# Altium schematic symbol library PCEIOT.SCHLIB: 87 symbols (part 2 of 2)
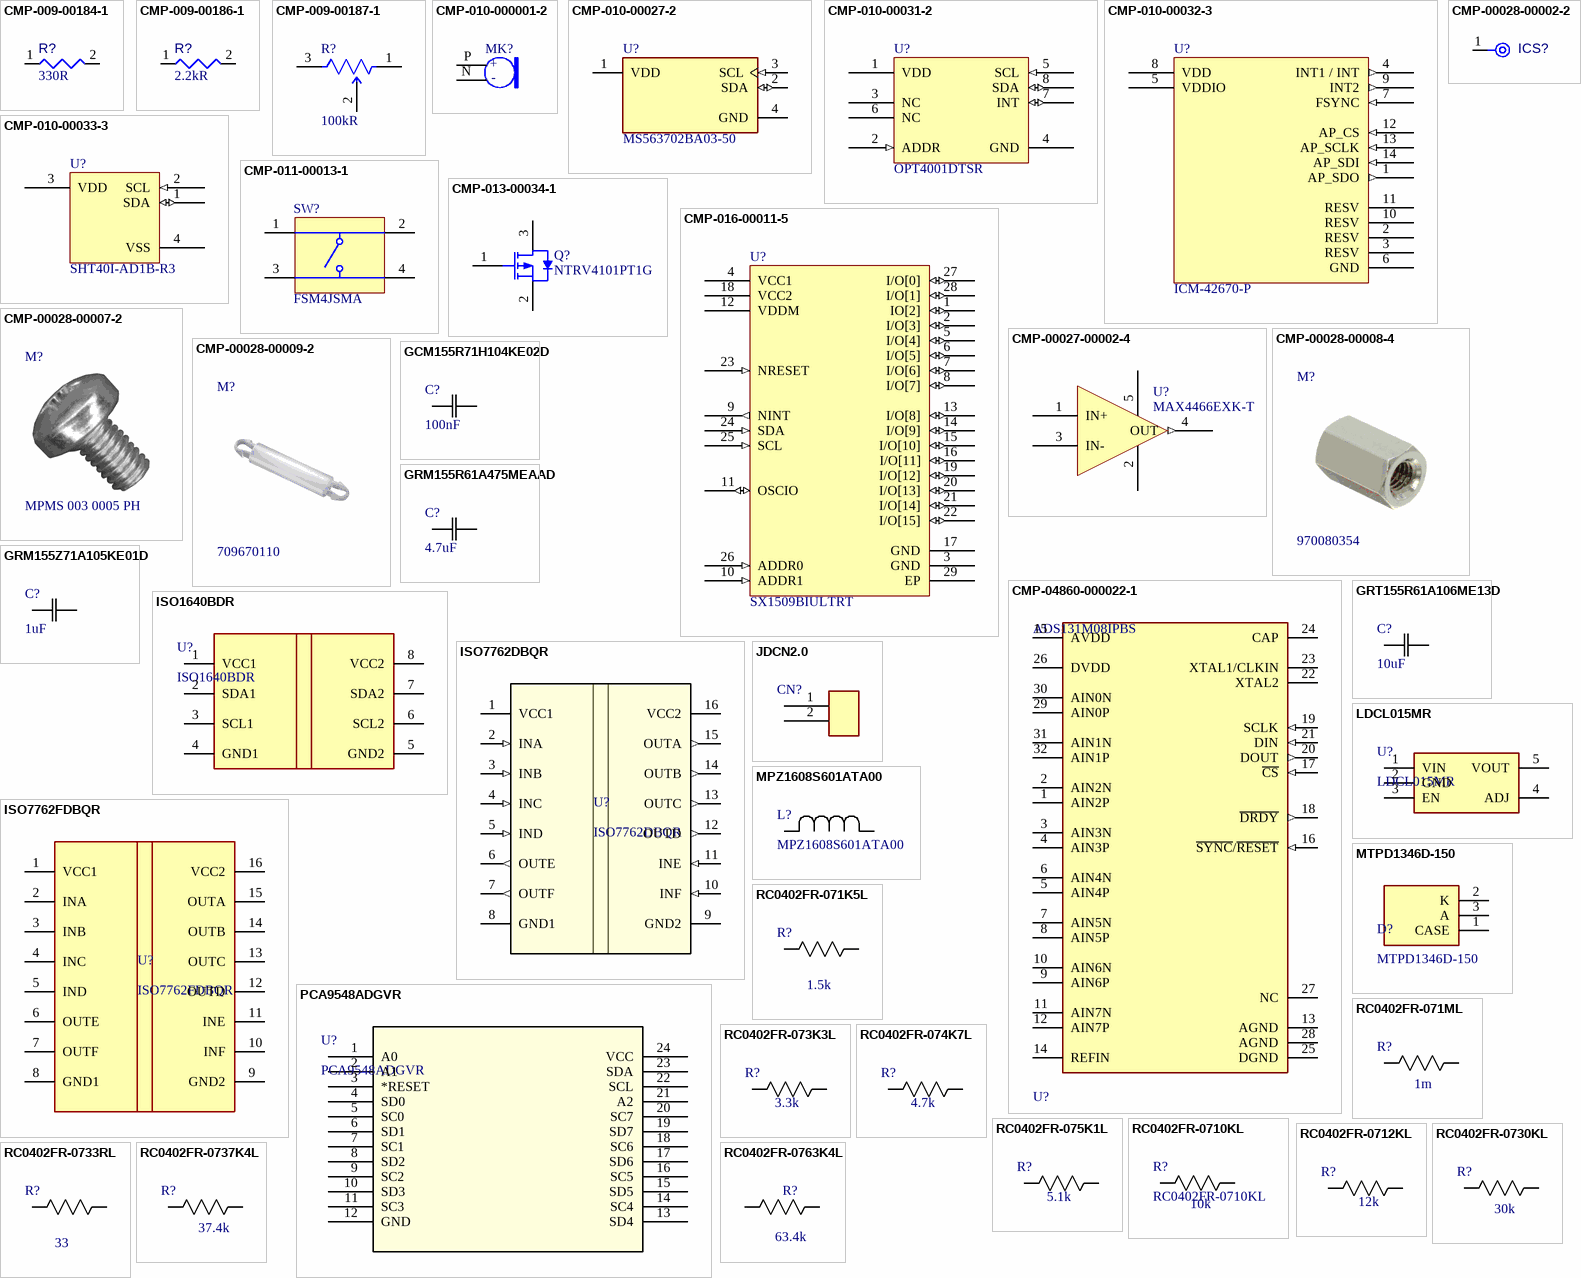
[diagram p3: symbols CMP-009-00184-1 to RC0402FR-0763K4L]

## LDCL015MR
designator U?
Linear Voltage Regulator IC Positive Adjustable 1 Output 150mA SOT-23-5; Manufacturer_Name: STMicroelectronics; Parameter 1: 497-12085-1-ND; Datasheet Link: https://www.st.com/resource/en/datasheet/ldcl015.pdf; Height: 1.45mm; Manufacturer_Part_Number: LDCL015MR; Mouser Part Number: 511-LDCL015MR; Mouser Price/Stock: https://www.mouser.co.uk/ProductDetail/STMicroelectronics/LDCL015MR?qs=GkDVaEP5dcuyqQ8OoCXIYg%3D%3D; Arrow Part Number: LDCL015MR; Arrow Price/Stock: https://www.arrow.com/en/products/ldcl015mr/stmicroelectronics?region=nac; Supplier 1: Digikey; Value: LDCL015MR
footprint SOT95P280X145-5N
footprint SOT95P280X145-5N
pins: 1 VIN, 2 GND (power), 3 EN, 4 ADJ, 5 VOUT

## MPZ1608S601ATA00
designator L?
INDUCTOR; SMT (0603); FERRITE-BEAD; 600; TOL=+/-25%; 1A; -55 DEGC TO +125 DEGC; Manufacturer_Name: TDK; Copyright: Copyright (C) 2026 Ultra Librarian. All rights reserved.; Manufacturer_Part_Number: MPZ1608S601ATA00; Supplier 1: DigiKey; Supplier Part Number 1: 445-MPZ1608S601ATA00CT-ND; Supplier 2: Mouser; Supplier Part Number 2: 810-MPZ1608S601ATA00; Value: MPZ1608S601ATA00; Datasheet Link: https://product.tdk.com/en/system/files/dam/doc/product/emc/emc/beads/catalog/beads_commercial_power_mpz1608_en.pdf
footprint INDC1608X06N (Chip Inductor, 2-Leads, Body 1,6x0,8mm (0603), IPC Medium Density)
pins: 1, 2

## MTPD1346D-150
designator D?
Photodiode 1300nm TO-46-3 Lens Top Metal Can; Manufacturer_Name: Marktech Optoelectronics; SnapEDA_Link: https://www.snapeda.com/parts/MTPD1346D-150/Marktech%20Optoelectronics/view-part/2762424/?ref=snap; Manufacturer_Part_Number: MTPD1346D-150; Value: MTPD1346D-150; Package: TO-46-3 Marktech Optoelectronics; Supplier 1: Digikey; Supplier Part Number 1: 1125-1327-ND; Datasheet Link: https://specs.marktechopto.com/pdf/products/datasheet/MTPD1346D-150.pdf
footprint TO127P540X1680-3N
pins: 1 CASE, 2 K, 3 A

## PCA9548ADGVR
designator U?
8-channel 2.3- to 5.5-V I2C/SMBus switch with reset & voltage translation 24-TVSOP -40 to 85; Manufacturer_Name: Texas Instruments; Copyright: Copyright (C) 2026 Ultra Librarian. All rights reserved.; Manufacturer_Part_Number: PCA9548ADGVR; RefDes: RefDes; Type: Type; Supplier 1: Mouser; Supplier Part Number 1: 595-PCA9548ADGVR
footprint DGV24
pins: 1 A0, 2 A1, 3 *RESET, 4 SD0, 5 SC0, 6 SD1, 7 SC1, 8 SD2, 9 SC2, 10 SD3, 11 SC3, 12 GND, 13 SD4, 14 SC4, 15 SD5, 16 SC5, 17 SD6, 18 SC6, 19 SD7, 20 SC7, 21 A2, 22 SCL, 23 SDA, 24 VCC

## RC0402FR-071K5L
designator R?  value 1.5k  (hidden comment: RC0402FR-071K5L)
1.5 kOhms ±1% 0.063W, 1/16W Chip Resistor 0402 (1005 Metric) Moisture Resistant Thick Film; Manufacturer_Name: Yageo; Copyright: Copyright (C) 2025 Ultra Librarian. All rights reserved.; Manufacturer_Part_Number: RC0402FR-071K5L; Supplier 1: DigiKey; Supplier Part Number 1: 311-1.50KLRCT-ND; Datasheet Link: https://yageogroup.com/content/datasheet/asset/file/PYU-RC_GROUP_51_ROHS_L
footprint RESC1005X40N (Chip Resistor, 2-Leads, Body 1,0x0,50mm (0402), IPC Medium Density)
pins: 1, 2

## RC0402FR-071ML
designator R?  value 1m  (hidden comment: RC0402FR-071ML)
1 MOhms ±1% 0.063W, 1/16W Chip Resistor 0402 (1005 Metric) Moisture Resistant Thick Film; Manufacturer_Name: Yageo; Copyright: Copyright (C) 2026 Ultra Librarian. All rights reserved.; Manufacturer_Part_Number: RC0402FR-071ML; Supplier 1: DigiKey; Supplier Part Number 1: 311-1.00MLRCT-ND; Datasheet Link: https://yageogroup.com/content/datasheet/asset/file/PYU-RC_GROUP_51_ROHS_L
footprint RESC1005X40N (Chip Resistor, 2-Leads, Body 1,0x0,50mm (0402), IPC Medium Density)
pins: 1, 2

## RC0402FR-073K3L
designator R?  value 3.3k  (hidden comment: RC0402FR-073K3L)
3.3 kOhms ±1% 0.063W, 1/16W Chip Resistor 0402 (1005 Metric) Moisture Resistant Thick Film; Manufacturer_Name: Yageo; Copyright: Copyright (C) 2025 Ultra Librarian. All rights reserved.; Manufacturer_Part_Number: RC0402FR-073K3L; Supplier: Digikey; Supplier 1: DigiKey; Supplier Part Number 1: 311-3.30KLRCT-ND; Datasheet Link: https://yageogroup.com/content/datasheet/asset/file/PYU-RC_GROUP_51_ROHS_L
footprint RESC1005X40N (Chip Resistor, 2-Leads, Body 1,0x0,50mm (0402), IPC Medium Density)
pins: 1, 2

## RC0402FR-074K7L
designator R?  value 4.7k  (hidden comment: RC0402FR-074K7L)
4.7 kOhms ±1% 0.063W, 1/16W Chip Resistor 0402 (1005 Metric) Moisture Resistant Thick Film; Manufacturer_Name: Yageo; Copyright: Copyright (C) 2025 Ultra Librarian. All rights reserved.; Manufacturer_Part_Number: RC0402FR-074K7L; Supplier: Digikey; Supplier 1: DigiKey; Supplier Part Number 1: 311-4.7KLRCT-ND; Datasheet Link: https://yageogroup.com/content/datasheet/asset/file/PYU-RC_GROUP_51_ROHS_L
footprint RESC1005X40N (Chip Resistor, 2-Leads, Body 1,0x0,50mm (0402), IPC Medium Density)
pins: 1, 2

## RC0402FR-075K1L
designator R?  value 5.1k  (hidden comment: RC0402FR-075K1L)
5.1 kOhms ±1% 0.063W, 1/16W Chip Resistor 0402 (1005 Metric) Moisture Resistant Thick Film; Manufacturer_Name: Yageo; Copyright: Copyright (C) 2025 Ultra Librarian. All rights reserved.; Manufacturer_Part_Number: RC0402FR-075K1L; Supplier: Digikey; Supplier 1: DigiKey; Supplier Part Number 1: 311-5.10KLRDKR-ND; Datasheet Link: https://yageogroup.com/content/datasheet/asset/file/PYU-RC_GROUP_51_ROHS_L
footprint RESC1005X40N (Chip Resistor, 2-Leads, Body 1,0x0,50mm (0402), IPC Medium Density)
pins: 1, 2

## RC0402FR-0710KL
designator R?  value 10k
10 kOhms ±1% 0.063W, 1/16W Chip Resistor 0402 (1005 Metric) Moisture Resistant Thick Film; Manufacturer_Name: Yageo; Copyright: Copyright (C) 2025 Ultra Librarian. All rights reserved.; Manufacturer_Part_Number: RC0402FR-0710KL; Supplier: Digikey; Supplier 1: DigiKey; Supplier Part Number 1: 311-10.0KLRCT-ND; Datasheet Link: https://yageogroup.com/content/datasheet/asset/file/PYU-RC_GROUP_51_ROHS_L
footprint RESC1005X40N (Chip Resistor, 2-Leads, Body 1,0x0,50mm (0402), IPC Medium Density)
pins: 1, 2

## RC0402FR-0712KL
designator R?  value 12k  (hidden comment: RC0402FR-0712KL)
12 kOhms ±1% 0.063W, 1/16W Chip Resistor 0402 (1005 Metric) Moisture Resistant Thick Film; Manufacturer_Name: Yageo; Copyright: Copyright (C) 2025 Ultra Librarian. All rights reserved.; Manufacturer_Part_Number: RC0402FR-0712KL; Supplier: Digikey; Supplier Part Number 1: 311-12.0KLRCT-ND; Supplier 1: Digikey; Datasheet Link: https://yageogroup.com/content/datasheet/asset/file/PYU-RC_GROUP_51_ROHS_L
footprint RESC1005X40N (Chip Resistor, 2-Leads, Body 1,0x0,50mm (0402), IPC Medium Density)
pins: 1, 2

## RC0402FR-0730KL
designator R?  value 30k  (hidden comment: RC0402FR-0730KL)
30 kOhms ±1% 0.063W, 1/16W Chip Resistor 0402 (1005 Metric) Moisture Resistant Thick Film; Manufacturer_Name: Yageo; Copyright: Copyright (C) 2026 Ultra Librarian. All rights reserved.; Manufacturer_Part_Number: RC0402FR-0730KL; Supplier 1: DigiKey; Supplier Part Number 1: 311-30.0KLRCT-ND; Datasheet Link: https://yageogroup.com/content/datasheet/asset/file/PYU-RC_GROUP_51_ROHS_L
footprint RESC1005X40N (Chip Resistor, 2-Leads, Body 1,0x0,50mm (0402), IPC Medium Density)
pins: 1, 2

## RC0402FR-0733RL
designator R?  value 33  (hidden comment: RC0402FR-0733RL)
33 Ohms ±1% 0.063W, 1/16W Chip Resistor 0402 (1005 Metric) Moisture Resistant Thick Film; Manufacturer_Name: Yageo; Copyright: Copyright (C) 2025 Ultra Librarian. All rights reserved.; Manufacturer_Part_Number: RC0402FR-0733RL; Supplier 1: DigiKey; Supplier Part Number 1: 311-33.0LRCT-ND; Datasheet Link: https://yageogroup.com/content/datasheet/asset/file/PYU-RC_GROUP_51_ROHS_L
footprint RESC1005X40N (Chip Resistor, 2-Leads, Body 1,0x0,50mm (0402), IPC Medium Density)
pins: 1, 2

## RC0402FR-0737K4L
designator R?  value 37.4k  (hidden comment: RC0402FR-0737K4L)
37.4 kOhms ±1% 0.063W, 1/16W Chip Resistor 0402 (1005 Metric) Moisture Resistant Thick Film; Manufacturer_Name: Yageo; Copyright: Copyright (C) 2026 Ultra Librarian. All rights reserved.; Manufacturer_Part_Number: RC0402FR-0737K4L; Supplier 1: DigiKey; Supplier Part Number 1: YAG3138CT-ND; Datasheet Link: https://yageogroup.com/content/datasheet/asset/file/PYU-RC_GROUP_51_ROHS_L
footprint RESC1005X40N (Chip Resistor, 2-Leads, Body 1,0x0,50mm (0402), IPC Medium Density)
pins: 1, 2

## RC0402FR-0763K4L
designator R?  value 63.4k  (hidden comment: *)
63.4 kOhms ±1% 0.063W, 1/16W Chip Resistor 0402 (1005 Metric) Moisture Resistant Thick Film; Manufacturer_Name: Yageo; Manufacturer_Part_Number: RC0402FR-0763K4L; Package: None; Price: None; Availability: Unavailable; Supplier 1: Digikey; Supplier Part Number 1: YAG3204CT-ND; Datasheet Link: https://yageogroup.com/content/datasheet/asset/file/PYU-RC_GROUP_51_ROHS_L
footprint RESC1005X40N (Chip Resistor, 2-Leads, Body 1,0x0,50mm (0402), IPC Medium Density)
pins: 1, 2

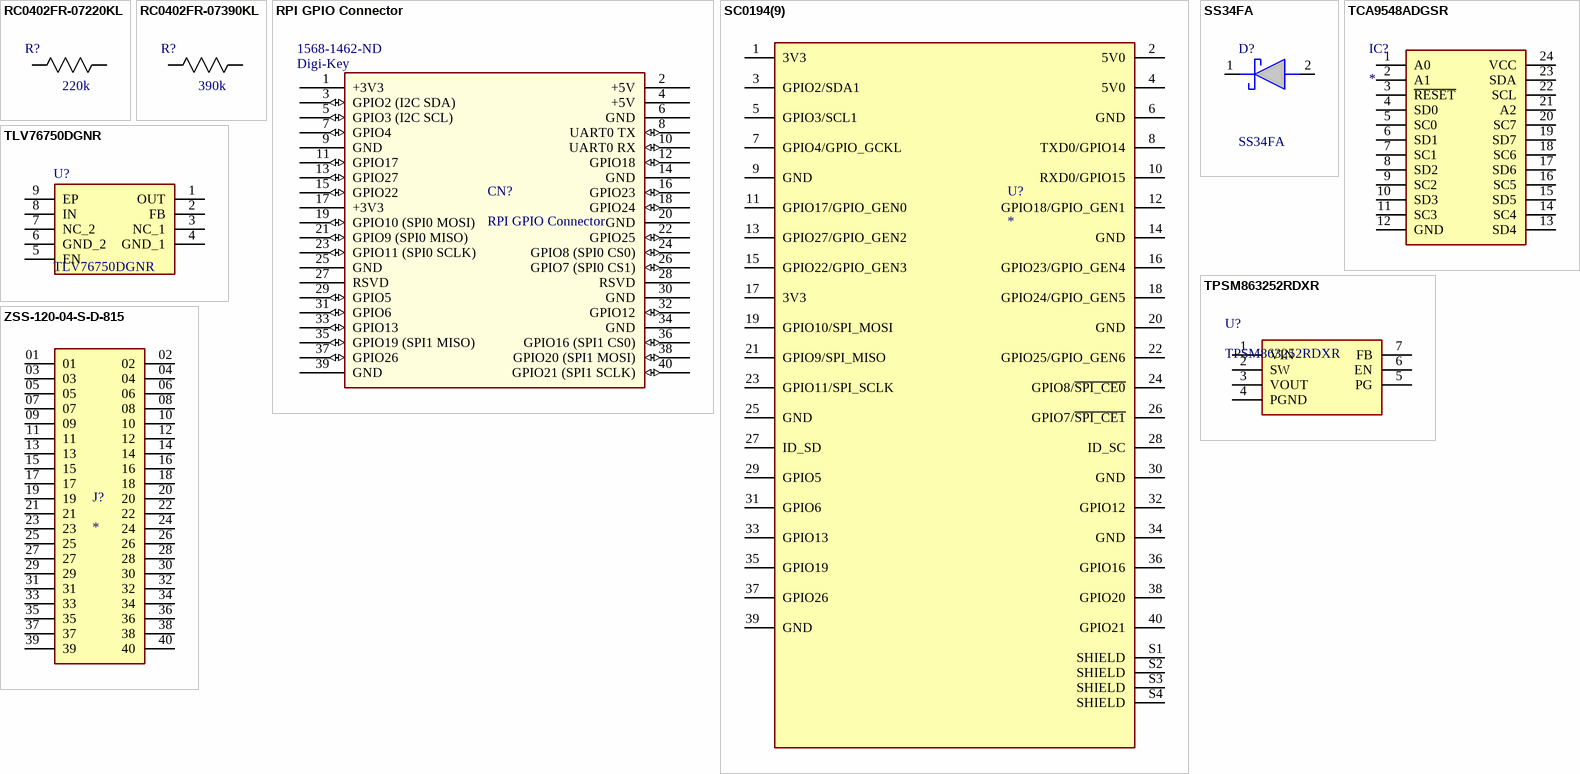
[diagram p2: symbols RC0402FR-07220KL to ZSS-120-04-S-D-815]

## RC0402FR-07220KL
designator R?  value 220k  (hidden comment: RC0402FR-07220KL)
220 kOhms ±1% 0.063W, 1/16W Chip Resistor 0402 (1005 Metric) Moisture Resistant Thick Film; Manufacturer_Name: Yageo; Copyright: Copyright (C) 2026 Ultra Librarian. All rights reserved.; Manufacturer_Part_Number: RC0402FR-07220KL; Supplier 1: DigiKey; Supplier Part Number 1: 311-220KLRCT-ND; Datasheet Link: https://yageogroup.com/content/datasheet/asset/file/PYU-RC_GROUP_51_ROHS_L
footprint RESC1005X40N (Chip Resistor, 2-Leads, Body 1,0x0,50mm (0402), IPC Medium Density)
pins: 1, 2

## RC0402FR-07390KL
designator R?  value 390k  (hidden comment: RC0402FR-07390KL)
390 kOhms ±1% 0.063W, 1/16W Chip Resistor 0402 (1005 Metric) Moisture Resistant Thick Film; Manufacturer_Name: Yageo; Copyright: Copyright (C) 2026 Ultra Librarian. All rights reserved.; Manufacturer_Part_Number: RC0402FR-07390KL; Supplier 1: DigiKey; Supplier Part Number 1: YAG3143CT-ND; Datasheet Link: https://yageogroup.com/content/datasheet/asset/file/PYU-RC_GROUP_51_ROHS_L
footprint RESC1005X40N (Chip Resistor, 2-Leads, Body 1,0x0,50mm (0402), IPC Medium Density)
pins: 1, 2

## RPI GPIO Connector
designator CN?  Supplier 1: Digi-Key  Supplier Part Number 1: 1568-1462-ND
GPIO Header for Raspberry Pi A+/B+/Pi 2/Pi 3 - 2x20; Manufacturer: SparkFun Electronics; Manufacturer Part Number: PRT-14017; Nils Minor: author; nilsminor@web.de: mail; RoHS: RoHS Compliant; Category: Development Boards, Kits, Programmers; Stock 1: 150; Pricing 1: 1=1.84 (EUR); Part Status: Active; Accessory Type: Connector; For Use With/Related Products: Raspberry Pi; ComponentLink1URL: https://cdn.sparkfun.com/datasheets/Dev/RaspberryPi/12313.pdf; ComponentLink1Description: https://cdn.sparkfun.com/datasheets/Dev/RaspberryPi/12313.pdf
footprint rpi
pins: 1 +3V3 (power), 2 +5V (power), 3 GPIO2 (I2C SDA) (io), 4 +5V (power), 5 GPIO3 (I2C SCL) (io), 6 GND (power), 7 GPIO4 (io), 8 UART0 TX (io), 9 GND (power), 10 UART0 RX (io), 11 GPIO17 (io), 12 GPIO18 (io), 13 GPIO27 (io), 14 GND (power), 15 GPIO22 (io), 16 GPIO23 (io), 17 +3V3 (power), 18 GPIO24 (io), 19 GPIO10 (SPI0 MOSI) (io), 20 GND (power), 21 GPIO9 (SPI0 MISO) (io), 22 GPIO25 (io), 23 GPIO11 (SPI0 SCLK) (io), 24 GPIO8 (SPI0 CS0) (io), 25 GND (power), 26 GPIO7 (SPI0 CS1) (io), 27 RSVD, 28 RSVD, 29 GPIO5 (io), 30 GND (power), 31 GPIO6 (io), 32 GPIO12 (io), 33 GPIO13 (io), 34 GND, 35 GPIO19 (SPI1 MISO) (io), 36 GPIO16 (SPI1 CS0) (io), 37 GPIO26 (io), 38 GPIO20 (SPI1 MOSI) (io), 39 GND (power), 40 GPIO21 (SPI1 SCLK) (io)

## SC0194(9)
designator U?
The Raspberry Pi 4 Model B SC0194(9) single board computer features a Broadcom BCM2711 ARM Cortex-A72 quad-core processor operating at 1.5GHz, making it a powerful choice for embedded computing applications. Equipped with 4GB of RAM and a variety of conne; SnapEDA_Link: https://www.snapeda.com/parts/SC0194(9)/Raspberry+Pi/view-part/?ref=snap; Package: None; Value: *; MF: Raspberry Pi; MP: SC0194(9); Check_prices: https://www.snapeda.com/parts/SC0194(9)/Raspberry+Pi/view-part/?ref=eda
footprint MODULE_SC0194(9)
footprint RPI_SHIELD
footprint RPI_SHIELD_CONNECTOR
pins: 1 3V3, 2 5V0, 3 GPIO2/SDA1, 4 5V0, 5 GPIO3/SCL1, 6 GND, 7 GPIO4/GPIO_GCKL, 8 TXD0/GPIO14, 9 GND, 10 RXD0/GPIO15, 11 GPIO17/GPIO_GEN0, 12 GPIO18/GPIO_GEN1, 13 GPIO27/GPIO_GEN2, 14 GND, 15 GPIO22/GPIO_GEN3, 16 GPIO23/GPIO_GEN4, 17 3V3, 18 GPIO24/GPIO_GEN5, 19 GPIO10/SPI_MOSI, 20 GND, 21 GPIO9/SPI_MISO, 22 GPIO25/GPIO_GEN6, 23 GPIO11/SPI_SCLK, 24 GPIO8/~{SPI_CE0}, 25 GND, 26 GPIO7/~{SPI_CE1}, 27 ID_SD, 28 ID_SC, 29 GPIO5, 30 GND, 31 GPIO6, 32 GPIO12, 33 GPIO13, 34 GND, 35 GPIO19, 36 GPIO16, 37 GPIO26, 38 GPIO20, 39 GND, 40 GPIO21, S1 SHIELD, S2 SHIELD, S3 SHIELD, S4 SHIELD

## SS34FA
designator D?
UL Flammability 94V-0 Classification; MSL 1 per J-STD-020; Low Power Loss, High Efficiency; Guard Ring for Overvoltage Protection; RoHS Compliant / Green Molding Compound; High Surge Current Capability; NRVB Prefix for Automotive and Other Applications Requiring Unique Site and Control Change Requirements; AECQ101 Qualified and PPAP Capable; Manufacturer_Name: OnSemi; Geometry.Height: 1.43mm; Value: SS34FACT-ND; Manufacturer_Part_Number: SS34FA; Mouser Part Number: 512-SS34FA; Mouser Price/Stock: https://www.mouser.co.uk/ProductDetail/onsemi-Fairchild/SS34FA?qs=R26iFe%2FkX%2FK1QUwZdCmBBw%3D%3D; Arrow Part Number: SS34FA; Arrow Price/Stock: https://www.arrow.com/en/products/ss34fa/on-semiconductor?utm_currency=USD&region=nac; Datasheet Link: https://www.onsemi.com/pub/Collateral/SS36FA-D.PDF; Supplier 1: DigiKey; Supplier Part Number 1: SS34FACT-ND
footprint SODFL3618X143N
pins: 1 K, 2 A

## TCA9548ADGSR
designator IC?
IC BUS SWITCH 2 X 1:8 24-VSSOP; Manufacturer_Name: Texas Instruments; Manufacturer_Part_Number: TCA9548ADGSR; Value: TCA9548ADGSR; Datasheet Link: https://www.ti.com/lit/ds/symlink/tca9548a.pdf?ts=1738746169750&ref_url=https%253A%252F%252Fwww.mouser.de%252F; Height: 1.1mm; Mouser Part Number: 595-TCA9548ADGSR; Mouser Price/Stock: https://www.mouser.co.uk/ProductDetail/Texas-Instruments/TCA9548ADGSR?qs=olJun0bQHM%252B7USbLxm4jDw%3D%3D; Arrow Part Number: TCA9548ADGSR; Arrow Price/Stock: https://www.arrow.com/en/products/tca9548adgsr/texas-instruments.html?utm_currency=USD&region=nac; Supplier 1: Digikey; Supplier Part Number 1: 296-TCA9548ADGSRCT-ND
footprint SOP50P490X110-24N
pins: 1 A0, 2 A1, 3 ~{RESET}, 4 SD0, 5 SC0, 6 SD1, 7 SC1, 8 SD2, 9 SC2, 10 SD3, 11 SC3, 12 GND, 13 SD4, 14 SC4, 15 SD5, 16 SC5, 17 SD6, 18 SC6, 19 SD7, 20 SC7, 21 A2, 22 SCL, 23 SDA, 24 VCC

## TLV76750DGNR
designator U?
LDO Voltage Regulators Adjustable- and fixed-output, 1-A, 16-V, positive-voltage low-dropout (LDO) linear regulator 8-HVSSOP -40 to 125; Manufacturer_Name: Texas Instruments; Geometry.Height: 1.1mm; Manufacturer_Part_Number: TLV76750DGNR; Mouser Part Number: 595-TLV76750DGNR; Mouser Price/Stock: https://www.mouser.co.uk/ProductDetail/Texas-Instruments/TLV76750DGNR?qs=QNEnbhJQKvaJEVkWGWZhnw%3D%3D; Arrow Part Number: *; Arrow Price/Stock: *; Datasheet Link: https://www.ti.com/lit/gpn/tlv767; Supplier 1: DigiKey; Supplier Part Number 1: 296-TLV76750DGNRCT-ND
footprint VSSOP_0DGNR_TEX
pins: 1 OUT, 2 FB, 3 NC_1, 4 GND_1, 5 EN, 6 GND_2, 7 NC_2, 8 IN, 9 EP

## TPSM863252RDXR
designator U?
3-V to 17-V input voltage, 3-A Eco-mode synchronous buck module 7-QFN-FCMOD -40 to 125; Manufacturer_Name: Texas Instruments; TYPE: TYPE; RefDes: RefDes; Copyright: Copyright (C) 2025 Ultra Librarian. All rights reserved.; Manufacturer_Part_Number: TPSM863252RDXR; Supplier: Digikey; Supplier 1: DigiKey; Supplier Part Number 1: 296-TPSM863252RDXRCT-ND; Value: TPSM863252RDXR; Parameter 2: *
footprint RDX0007A-MFG - 2
pins: 1 VIN (power), 2 SW, 3 VOUT (power), 4 PGND (power), 5 PG (oc), 6 EN, 7 FB

## ZSS-120-04-S-D-815
designator J?
MP: ZSS-120-04-S-D-815; Package: None; Price: None; Value: *; Availability: Unavailable
footprint SAMTEC_ZSS-120-04-S-D-815
pins: 01, 02, 03, 04, 05, 06, 07, 08, 09, 10, 11, 12, 13, 14, 15, 16, 17, 18, 19, 20, 21, 22, 23, 24, 25, 26, 27, 28, 29, 30, 31, 32, 33, 34, 35, 36, 37, 38, 39, 40